# Altium footprint library 1959-1-00-15-00-00-03-0.PcbLib: 1 footprints
Each footprint in its own frame and in the unit in brackets; x right, y up, seen from the top. Pads: shape width x height; smd on the part's side, far side on the other; paste and mask are expansions set on the pad; w line width, h text height; cw(c..) or ccw(c..) is an arc to the next point about the centre after c.
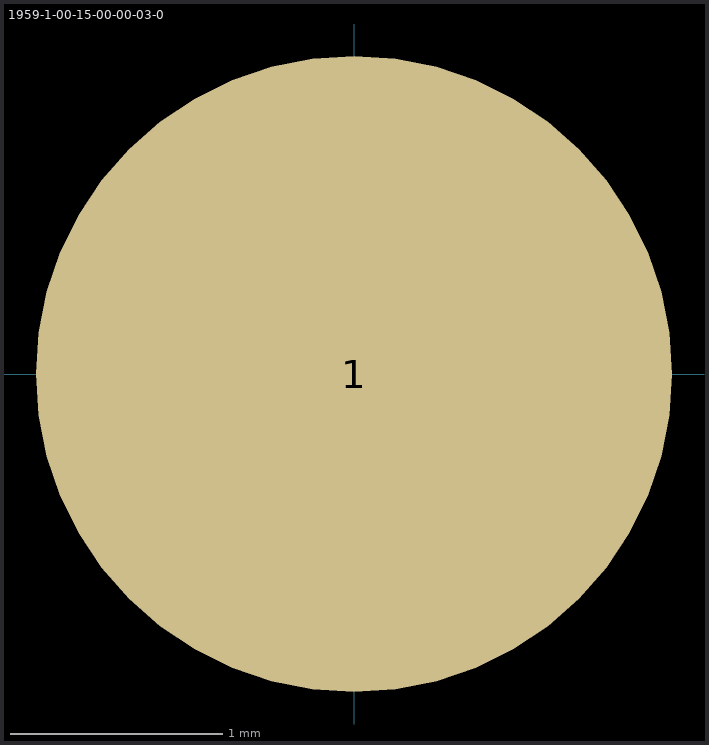
[diagram p0: the footprint, top view; thin cyan lines are the x and y axes]

## 1959-1-00-15-00-00-03-0 [mm]
pads (1):
  round 3 smd: 1(0,0)
3D body "1959-1-00-15-00-00-03-0.STEP": height 7.32, standoff 0, extent -1.576,-1.587 1.576,1.587